# Altium integrated library 34763-0001.IntLib: 1 symbol
Pins are listed as number, name and electrical type; pins without a type are passive.

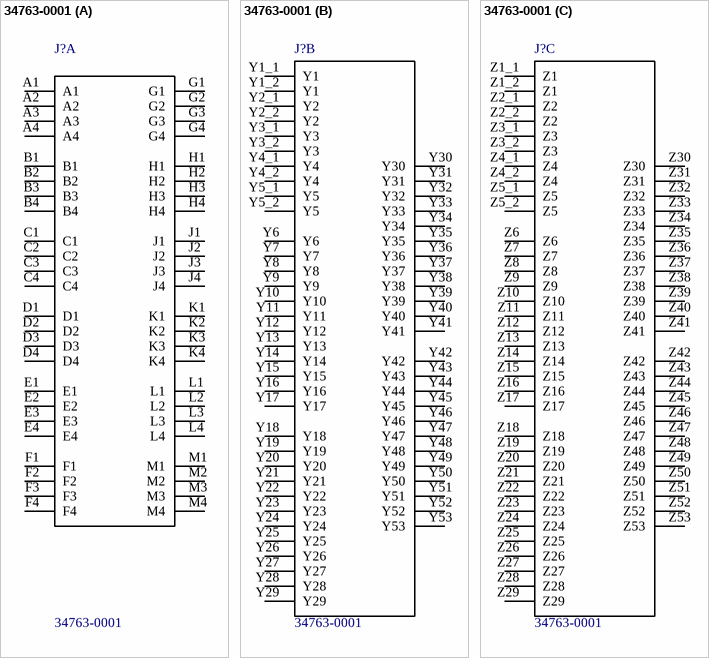
[diagram p0: symbol 34763-0001]

## 34763-0001
designator J?
/ Automotive Connectors CMC HDR ASSY 154 WAY JD MECA 48-53-53 /; MF: Molex; Availability: Unavailable; SnapEDA_Link: https://www.snapeda.com/parts/34763-0001/Molex/view-part/?ref=snap; Package: None; MP: 34763-0001; Price: None; Value: *
footprint *MOLEX_34763-0001_34763-0001(Primary)
part A pins: A1, A2, A3, A4, B1, B2, B3, B4, C1, C2, C3, C4, D1, D2, D3, D4, E1, E2, E3, E4, F1, F2, F3, F4, G1, G2, G3, G4, H1, H2, H3, H4, J1, J2, J3, J4, K1, K2, K3, K4, L1, L2, L3, L4, M1, M2, M3, M4
part B pins: Y1_1 Y1, Y1_2 Y1, Y2_1 Y2, Y2_2 Y2, Y3_1 Y3, Y3_2 Y3, Y4_1 Y4, Y4_2 Y4, Y5_1 Y5, Y5_2 Y5, Y6, Y7, Y8, Y9, Y10, Y11, Y12, Y13, Y14, Y15, Y16, Y17, Y18, Y19, Y20, Y21, Y22, Y23, Y24, Y25, Y26, Y27, Y28, Y29, Y30, Y31, Y32, Y33, Y34, Y35, Y36, Y37, Y38, Y39, Y40, Y41, Y42, Y43, Y44, Y45, Y46, Y47, Y48, Y49, Y50, Y51, Y52, Y53
part C pins: Z1_1 Z1, Z1_2 Z1, Z2_1 Z2, Z2_2 Z2, Z3_1 Z3, Z3_2 Z3, Z4_1 Z4, Z4_2 Z4, Z5_1 Z5, Z5_2 Z5, Z6, Z7, Z8, Z9, Z10, Z11, Z12, Z13, Z14, Z15, Z16, Z17, Z18, Z19, Z20, Z21, Z22, Z23, Z24, Z25, Z26, Z27, Z28, Z29, Z30, Z31, Z32, Z33, Z34, Z35, Z36, Z37, Z38, Z39, Z40, Z41, Z42, Z43, Z44, Z45, Z46, Z47, Z48, Z49, Z50, Z51, Z52, Z53